# EAGLE library part IEEE1394_6P (library NewSDR)
IEEE-1394 Firewire Connector Right Angle PCB Mount
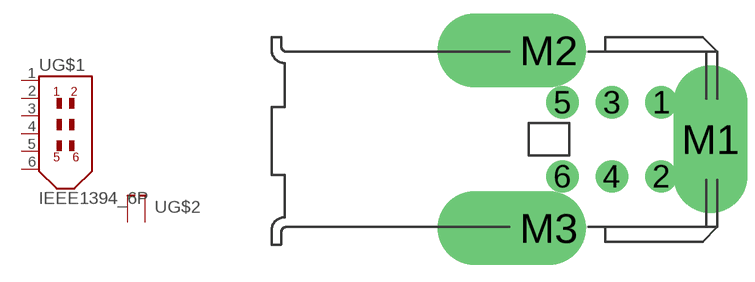
[diagram p76: symbol with the pads of SD-53460-; footprint SD-53460-]

Designator prefix -; gates G$1=IEEE1394_6P G$2=SHIELD_2

## IEEE1394_6PRA  [SD-53460-]
1  G$1:1  pas
2  G$1:2  pas
3  G$1:3  pas
4  G$1:4  pas
5  G$1:5  pas
6  G$1:6  pas
M1  G$2:S1  pas
M2  G$2:S2  pas

## Footprint SD-53460- (pad centres in mm)
Molex IEEE-1394 Right Angle Socket
drill 0.8 pad 1.27: 1 7.8,1.5; 2 7.8,-1.5; 3 5.8,1.5; 4 5.8,-1.5; 5 3.8,1.5; 6 3.8,-1.5
drill 2 pad 2.134 long: M1 9.8,0
drill 2 pad 2.286 offset: M2 3.25,3.6; M3 3.25,-3.6